# EAGLE library part MICRO-SD-DM3CS (library MyComponents)
DM3CS, Hinge, Push-Pull (no ejection mechanism), Top board mounting (Standard)
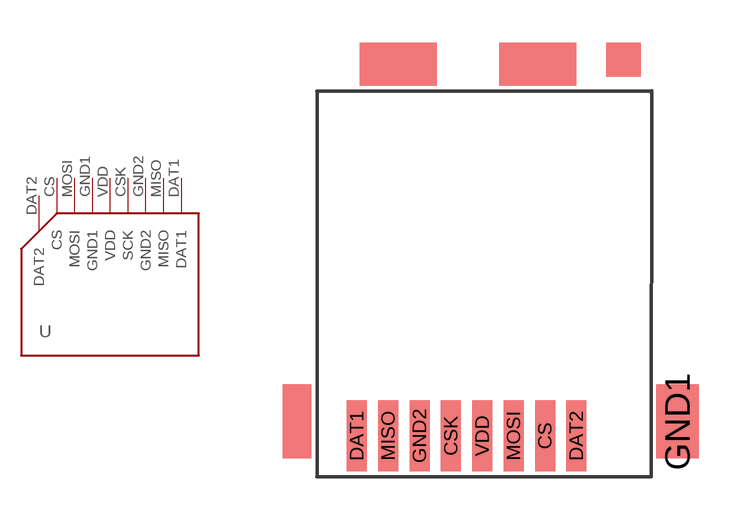
[diagram p9: symbol with the pads of DM3CS; footprint DM3CS]

Designator prefix -

## MICRO-SD-DM3CS  [DM3CS]
CS  CS
CSK  SCK
DAT1  DAT1
DAT2  DAT2
GND1  GND1
GND2  GND2
MISO  MISO
MOSI  MOSI
VDD  VDD

## Footprint DM3CS (pad centres in mm)
DM3CS, Hinge, Push-Pull (no ejection mechanism), Top board mounting (Standard)
smd 0.7 x 2.5: CS 1.9,-6.9; CSK -1.4,-6.9; DAT1 -4.7,-6.9; DAT2 3,-6.9; GND2 -2.5,-6.9; MISO -3.6,-6.9; MOSI 0.8,-6.9; VDD -0.3,-6.9
smd 1.5 x 2.6: GND1 6.55,-6.4